# Altium footprint library capacitor.PcbLib: 10 footprints
Each footprint in its own frame and in the unit in brackets; x right, y up, seen from the top. Pads: shape width x height; smd on the part's side, far side on the other; paste and mask are expansions set on the pad; w line width, h text height; cw(c..) or ccw(c..) is an arc to the next point about the centre after c.
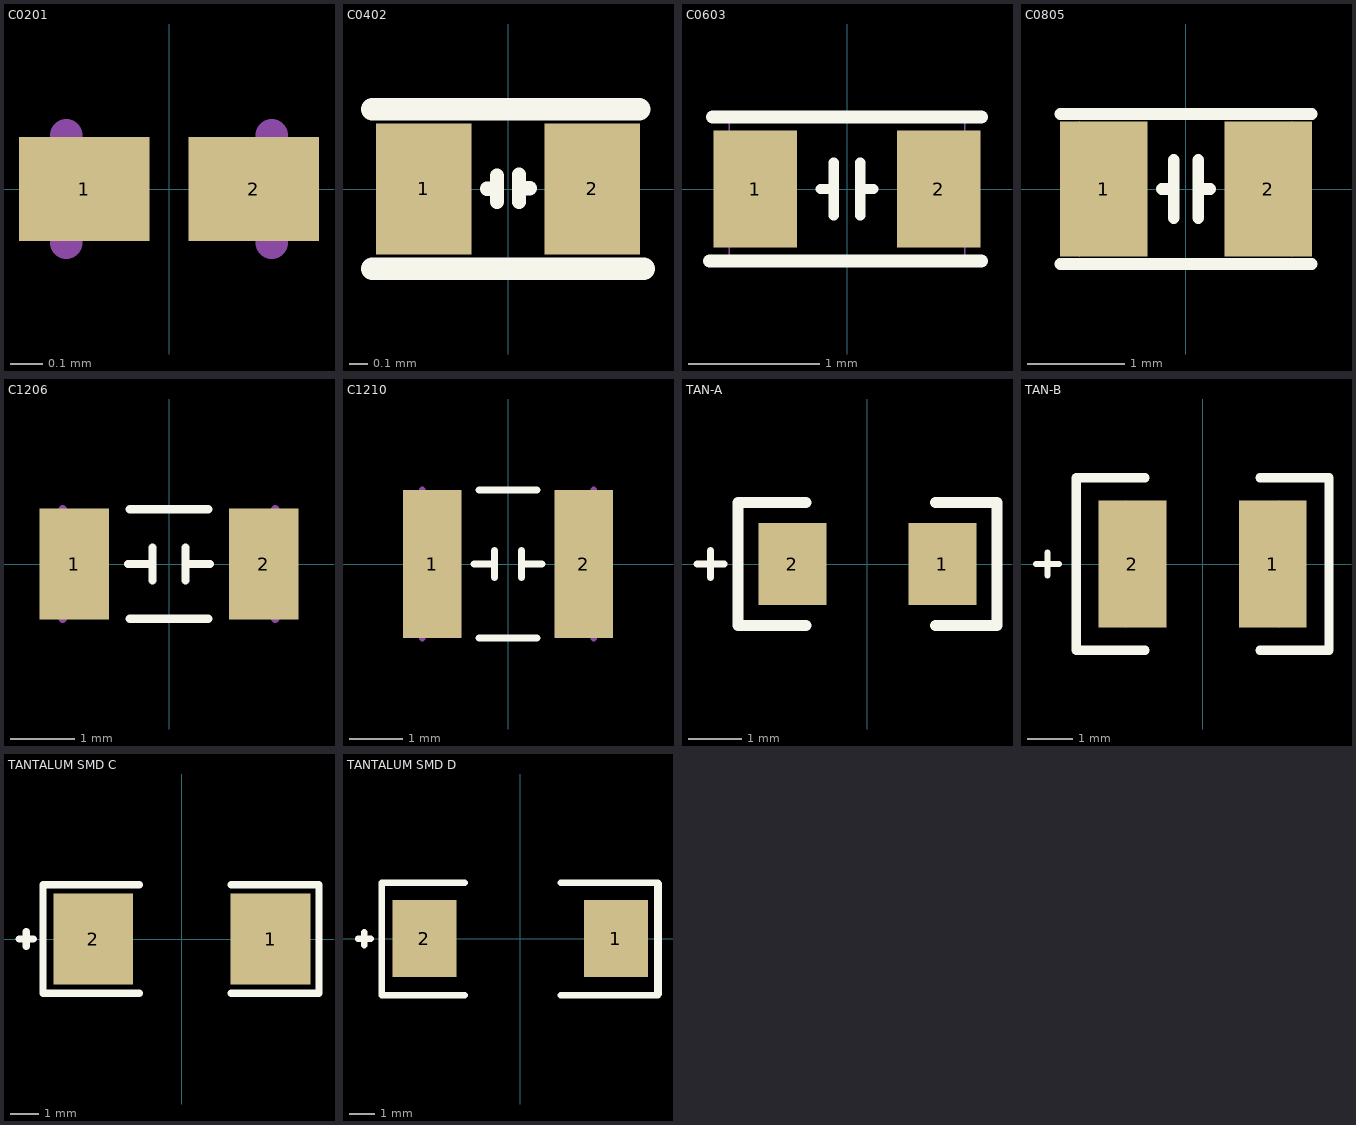
[diagram p0: the footprints below, top view; thin cyan lines are the x and y axes]

## C0201 [mm] "Chip Capacitor, 2-Leads, Body 0.60x0.30mm, IPC High Density"
height 0.33
pads (2):
  rect 0.4x0.32 smd: 1(-0.26,0) 2(0.26,0)
Mechanical 13:
  lines w0.1: -0.315,-0.165 -0.315,0.165 ; 0.315,-0.165 0.315,0.165
3D body "csmd-0201_l0-6_w0-3_h0-33.stp": height 0.33, standoff 0, extent -0.3,-0.15 0.3,0.15

## C0402 [mm]
pads (2):
  rect 0.51x0.7 smd mask+0.05: 1(-0.45,0) 2(0.45,0)
Top Overlay:
  lines w0.076: -0.112,0.002 -0.059,0.002 ; -0.059,-0.068 -0.059,0.071 ; 0.059,-0.069 0.059,0.077 ; 0.059,0.004 0.116,0.004
  lines w0.12: -0.725,-0.425 0.725,-0.425 ; -0.725,0.425 0.7,0.425
Bottom Assembly:
  lines w0.01: -0.45,-0.3 -0.45,0.3 ; 0.45,-0.3 0.45,0.3
3D body "GRM155R71A104KA01D.STEP": height 0.51, standoff 0.01, extent -0.497,-0.27 0.503,0.28

## C0603 [mm]
pads (2):
  rect 0.64x0.89 smd mask+0.05: 1(-0.7,0) 2(0.7,0)
Top Overlay:
  lines w0.08: -0.2,0 -0.1,0 ; -0.1,-0.2 -0.1,0.2 ; 0.1,-0.2 0.1,0.2 ; 0.1,0 0.2,0
  lines w0.1: -1.05,-0.55 1.025,-0.55 ; -1.025,0.55 1.025,0.55
Bottom Assembly:
  lines w0.01: -0.9,-0.5 -0.9,0.5 ; 0.9,-0.5 0.9,0.5
3D body "C0603.STEP": height 0.5, standoff 0, extent -0.8,-0.4 0.8,0.4

## C0805 [mm]
pads (2):
  rect 0.9x1.4 smd mask+0.05: 1(-0.85,0) 2(0.85,0)
Top Overlay:
  lines w0.12: -1.3,-0.775 1.3,-0.775 ; -1.3,0.775 1.3,0.775 ; -0.25,0 -0.15,0 ; -0.125,-0.3 -0.125,0.3 ; 0.125,-0.3 0.125,0.3 ; 0.15,0 0.25,0
Bottom Assembly:
  lines w0.01: -1.1,-0.7 -1.1,0.7 ; 1.1,-0.7 1.1,0.7
3D body "C0805_2012D.STEP": height 1.25, standoff 0, extent -1,-0.625 1,0.625

## C1206 [mm]
pads (2):
  rect 1.08x1.72 smd: 1(-1.47,0) 2(1.47,0)
Top Overlay:
  lines w0.127: -0.635,0 -0.254,0 ; -0.61,-0.85 0.61,-0.85 ; -0.61,0.85 0.61,0.85 ; -0.254,-0.254 -0.254,0.254 ; 0.254,-0.254 0.254,0.254 ; 0.254,0 0.635,0
Mechanical 13:
  lines w0.127: -1.65,-0.85 -1.65,0.85 ; 1.65,-0.85 1.65,0.85
3D body "GRM3195C2A563GA01D.STEP": height 0.96, standoff 0.01, extent -1.6,-0.8 1.6,0.8

## C1210 [mm]
pads (2):
  rect 1.1x2.77 smd: 1(-1.413,0) 2(1.413,0)
Top Overlay:
  lines w0.127: -0.635,0 -0.254,0 ; -0.54,-1.38 0.54,-1.38 ; -0.54,1.38 0.54,1.38 ; -0.254,-0.254 -0.254,0.254 ; 0.254,-0.254 0.254,0.254 ; 0.254,0 0.635,0
Mechanical 13:
  lines w0.127: -1.6,-1.38 -1.6,1.38 ; 1.6,-1.38 1.6,1.38
3D body "C1210W104KCRACTU.STEP": height 1.91, standoff 0.01, extent -1.6,-1.25 1.6,1.25

## TAN-A [mil]
pads (2):
  rect 50x60 smd: 1(55,0) 2(-55,0)
Top Overlay:
  lines w5: -125,0 -105,0 ; -115,-10 -115,10
  lines w8: -45,-45 -95,-45 -95,45 -45,45 ; 50,-45 95,-45 95,45 50,45
3D body "ctantal_case-a_l3-2_w1-6_h1-6.stp": height 62.99, standoff 0, extent -62.99,-31.5 62.99,31.5

## TAN-B [mm]
pads (2):
  rect 1.5x2.8 smd: 1(1.55,0) 2(-1.55,0)
Top Overlay:
  lines w0.127: -3.683,0 -3.175,0 ; -3.429,-0.254 -3.429,0.254
  lines w0.203: -1.27,-1.905 -2.794,-1.905 -2.794,1.905 -1.27,1.905 ; 1.27,-1.905 2.794,-1.905 2.794,1.905 1.27,1.905
Mechanical 13:
  lines w0.1: -1.7,-1.35 -1.7,1.35 ; 1.7,-1.35 1.7,1.35
3D body "ctantal_case-b_l3-5_w2-8_h1-9.stp": height 1.9, standoff 0, extent -1.75,-1.4 1.75,1.4

## TANTALUM SMD C [mm] "SMD TIPO C 6.0x3.2x2.2"
pads (2):
  rect 2.8x3.2 smd: 1(3.111,0) 2(-3.111,0)
Top Overlay:
  lines w0.254: -5.715,0 -5.207,0 ; -5.461,-0.254 -5.461,0.254 ; -1.492,-1.905 -4.87,-1.905 -4.87,1.905 -1.492,1.905 ; 1.721,-1.905 4.807,-1.905 4.807,1.905 1.721,1.905
3D body "ctantal_case-c_l6-0_w3-2_h2-5.stp": height 2.5, standoff 0, extent -3,-1.6 3,1.6

## TANTALUM SMD D [mil] "SMD TIPO D 7.3x4.3x2.4"
pads (2):
  rect 98.42x118.5 smd: 1(147.5,0) 2(-147.5,0)
Top Overlay:
  lines w10: -250,0 -230,0 ; -240,-10 -240,10 ; -85.5,-87 -213.5,-87 -213.5,86 -85.5,86 ; 62.5,-87 62.2,-87 212.5,-87 ; 62.5,86 62.2,86 212.5,86
  lines w13: 212.5,-85 212.5,84.29
3D body "ctantal_case-d_l7-3_w4-3_h2-8.stp": height 110.24, standoff 0, extent -143.7,-84.65 143.7,84.65